# Altium integrated library keyboradLib.IntLib: 3 symbols
Pins are listed as number, name and electrical type; pins without a type are passive.

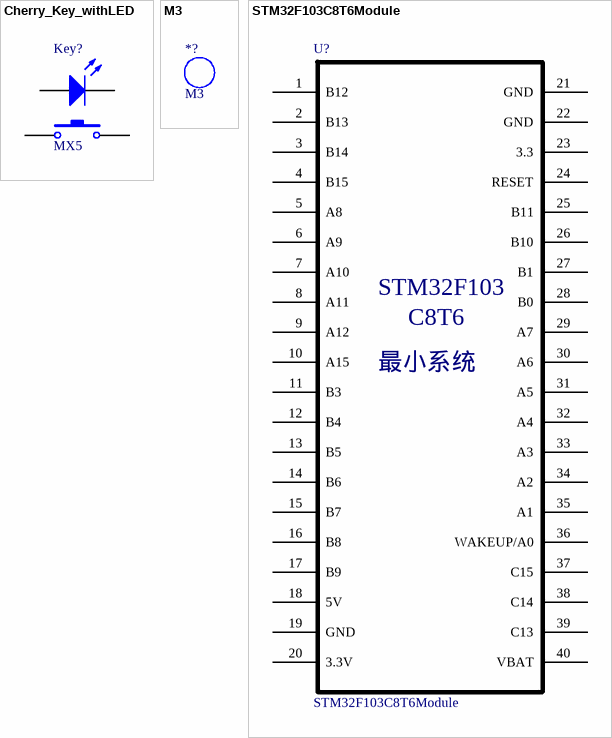
[diagram p0: symbols Cherry_Key_withLED to STM32F103C8T6Module]

## Cherry_Key_withLED
designator Key?, comment MX5
footprint Cherry MX Switch (樱桃轴体)
pins: 1, 2, A, K

## M3
designator *?
铜柱孔; 版权归属: 源创客; BOM名称: 铜柱孔; 学习资源: www.ooocke.com
footprint M3 140X350 (M3螺丝孔，孔140Mil，焊盘350Mil)
footprint M3 125X300 (M3螺丝孔，孔125Mil，焊盘300Mil)
footprint M3 125X200 (M3螺丝孔，孔125Mil，焊盘200Mil)

## STM32F103C8T6Module
designator U?
footprint STM32F103C8T6_Module (最常用的32小蓝板)
pins: 1 B12, 2 B13, 3 B14, 4 B15, 5 A8, 6 A9, 7 A10, 8 A11, 9 A12, 10 A15, 11 B3, 12 B4, 13 B5, 14 B6, 15 B7, 16 B8, 17 B9, 18 5V, 19 GND, 20 3.3V, 21 GND, 22 GND, 23 3.3, 24 RESET, 25 B11, 26 B10, 27 B1, 28 B0, 29 A7, 30 A6, 31 A5, 32 A4, 33 A3, 34 A2, 35 A1, 36 WAKEUP/A0, 37 C15, 38 C14, 39 C13, 40 VBAT
text: STM32F103; C8T6; 最小系统